# Altium footprint library PCB - LEADLESS - DFN - GUERRILLARF DFN-6 1.5x1.5.PcbLib: 1 footprints
Each footprint in its own frame and in the unit in brackets; x right, y up, seen from the top. Pads: shape width x height; smd on the part's side, far side on the other; paste and mask are expansions set on the pad; w line width, h text height; cw(c..) or ccw(c..) is an arc to the next point about the centre after c.
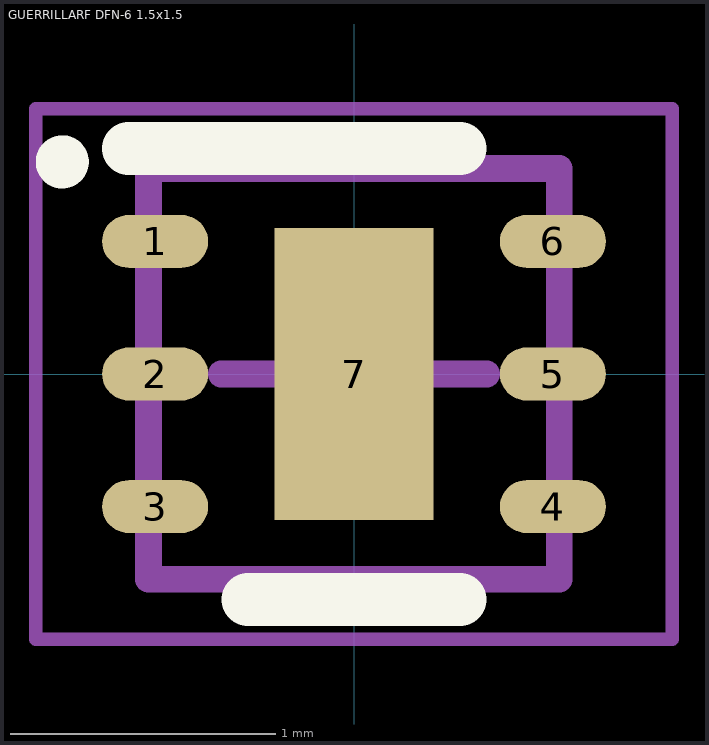
[diagram p0: the footprint, top view; thin cyan lines are the x and y axes]

## GUERRILLARF DFN-6 1.5x1.5 [mm] "DFN, 6-Leads, Body 1.50x1.50mm, Pitch 0.50mm, Thermal Pad 0.60x1.10mm"
height 0.5
pads (7):
  oval 0.4x0.2 smd: 1(-0.75,0.5) 2(-0.75,0) 3(-0.75,-0.5) 4(0.75,-0.5) 5(0.75,0) 6(0.75,0.5)
  rect 0.6x1.1 smd: 7(0,0)
Top Overlay:
  circle w0.1: c-1.1,0.8 r0.05
  lines w0.2: -0.85,0.85 0.4,0.85 ; -0.4,-0.85 0.4,-0.85
Mechanical 13:
  lines w0.1: -0.775,-0.775 -0.775,0.775 0.775,0.775 0.775,-0.775 -0.775,-0.775
Mechanical 15:
  lines w0.05: -1.2,-1 -1.2,1 1.2,1 1.2,-1 -1.2,-1
  lines w0.1: -0.5,0 0.5,0 ; 0,-0.5 0,0.5
3D body "GUERRILLARF DFN-6 1.5x1.5 .step": height 0.5, standoff 0, extent -0.785,-0.775 0.785,0.775